# Altium footprint library SG_PCB_AltSobor_work.PcbLib: 52 footprints (part 2 of 4)
Each footprint in its own frame and in the unit in brackets; x right, y up, seen from the top. Pads: shape width x height; smd on the part's side, far side on the other; paste and mask are expansions set on the pad; w line width, h text height; cw(c..) or ccw(c..) is an arc to the next point about the centre after c.
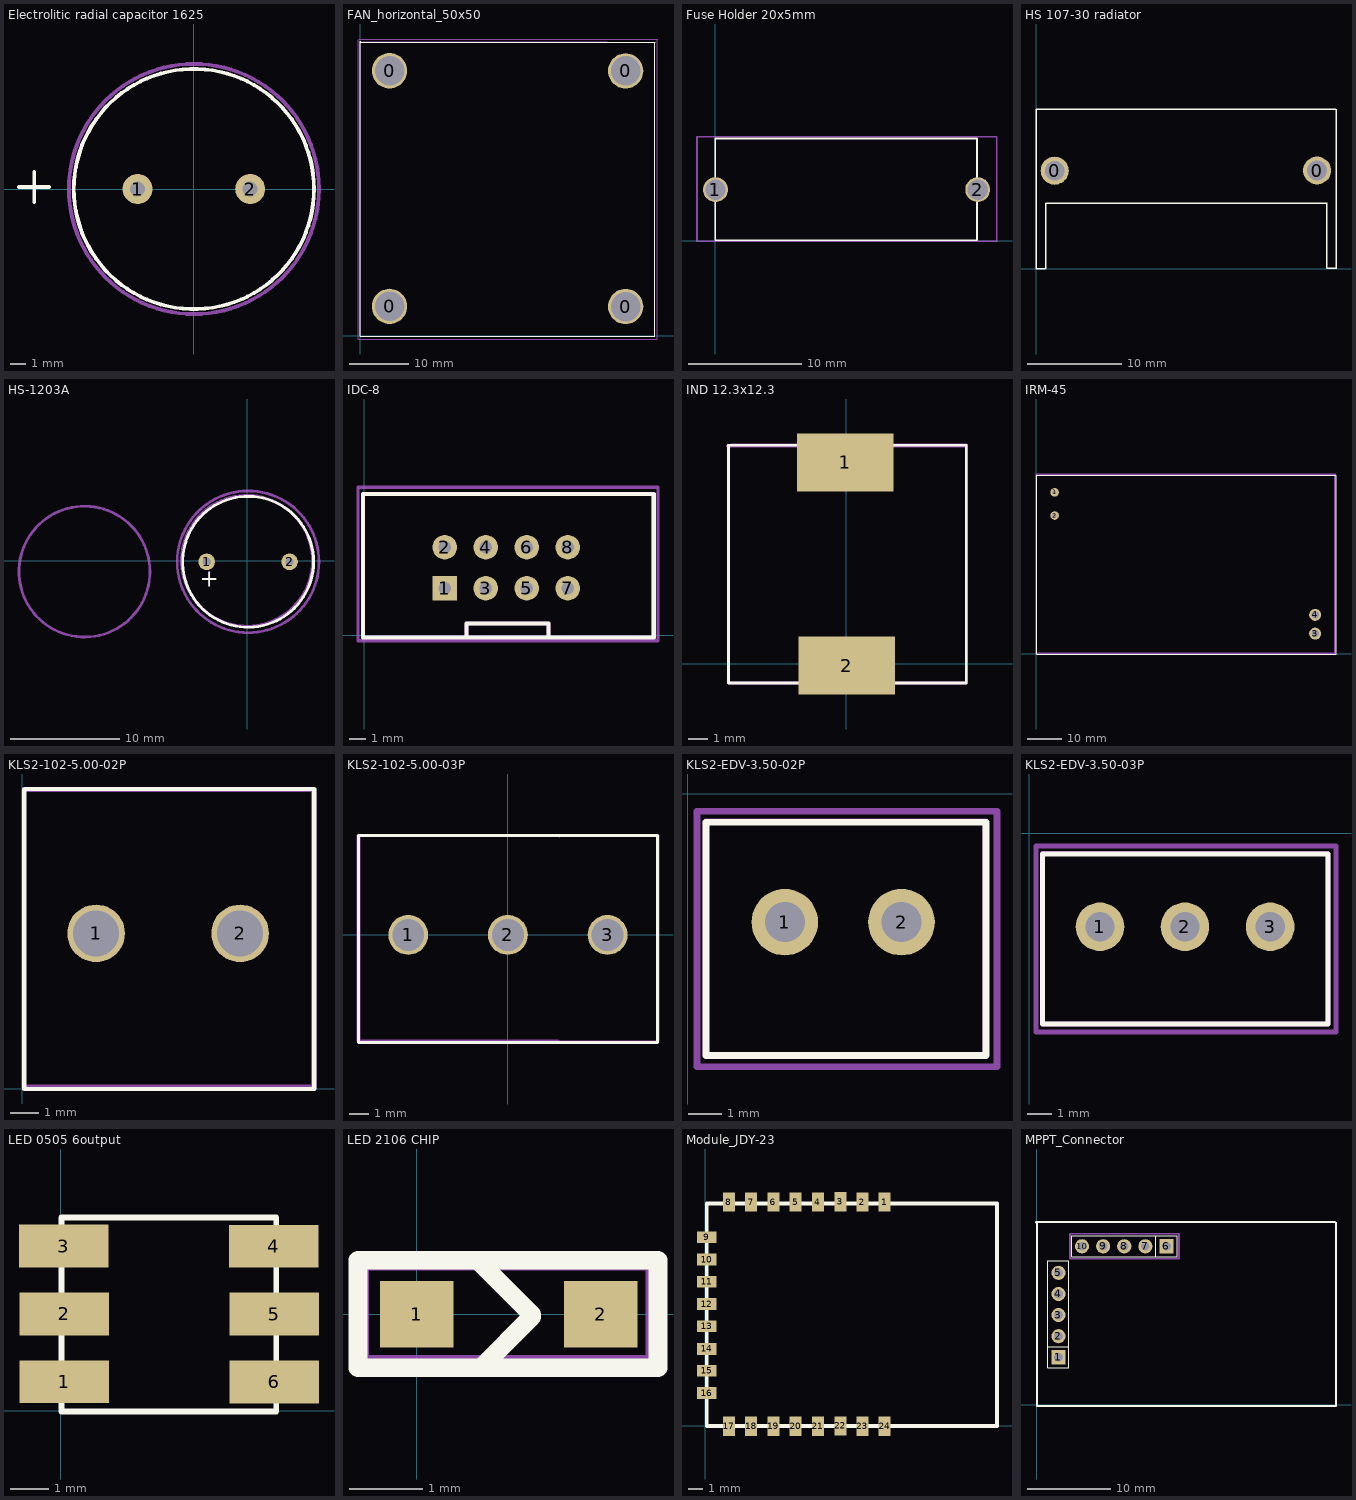
[diagram p1: the footprints below, top view; thin cyan lines are the x and y axes]

## Electrolitic radial capacitor 1625 [mm]
pads (2):
  round 2 hole 1: 1(-3.75,0) 2(3.75,0)
Top Overlay:
  circle w0.254: c0,0 r8
  lines w0.254: -11.65,0.125 -9.65,0.125 ; -10.64,-0.86 -10.64,1.14
Top Courtyard:
  circle w0.254: c0,0 r8.33

## FAN_horizontal_50x50 [mm]
pads (4):
  round 6 hole 5: 0(5,5.02) 0(5,45.015) 0(45.07,4.99) 0(45.07,44.985)
Top Overlay:
  lines w0.15: 0,-0.01 49.99,-0.01 49.99,49.75 50.105,49.865 0.115,49.865 0,49.98 0,-0.01
Bottom Assembly:
  lines w0.15: -0.315,-0.515 50.37,-0.515 50.445,-0.44 50.445,50.325 50.52,50.4 -0.165,50.4 -0.315,50.25 -0.315,-0.515
Top Courtyard:
  lines w0.15: -0.055,49.925 41.83,49.925 41.89,49.865 49.99,49.865 49.99,-0.01 0,-0.01 0,49.87 -0.055,49.925
3D body "FAN 50x50x15mm.step": height 15, standoff 0, extent 0,0.005 50,50.005

## Fuse Holder 20x5mm [mm]
pads (2):
  round 2.2 hole 1.8: 1(0,4.5) 2(23.175,4.5)
Top Overlay:
  lines w0.15: -0.015,0.03 -0.015,9.025 23.12,9.025 23.12,0.03 -0.015,0.03
Top Courtyard:
  lines w0.15: -1.63,9.18 24.855,9.18 24.855,-0.04 24.88,-0.065 -1.63,-0.065 -1.63,9.18 ; -1.63,9.18 -1.63,9.18
3D body "User Library-Fuse_Holder.STEP": height 12.44, standoff -6.4, extent 0.015,0.01 23.175,9.01

## HS 107-30 radiator [mm]
pads (2):
  round 3 hole 2.1: 0(1.995,10.46) 0(29.99,10.48)
Top Overlay:
  lines w0.15: 1,0 0,0 0,17 32,17 ; 1.015,0.015 1.015,6.995 30.99,6.995 ; 31.01,7.015 31.01,0.035 31.99,0.035 ; 32.01,0.015 32.01,17.015

## HS-1203A [mil]
pads (2):
  round 60 hole 30: 1(-145.67,-3.94) 2(153.54,-3.94)
Top Overlay:
  circle w10: c3.94,-3.94 r236.22
  text "+" at -171.1,-94.49 h60
Top Assembly:
  circle w10: c-586.61,-39.37 r236.22
  circle w10: c0,0 r236.22
Top Courtyard:
  circle w10: c3.94,-3.94 r255.91
3D body "Buzzer_HS-1203A_7,6mm.SLDPRT": height 377.95, standoff -216.54, extent -232.28,-240.15 240.16,232.29

## IDC-8 [mil]
pads (8):
  rect 60x60 hole 30: 1(196.65,115.35)
  round 60 hole 30: 2(196.65,215.35) 3(296.65,115.35) 4(296.65,215.35) 5(396.65,115.35) 6(396.65,215.35) 7(496.65,115.35) 8(496.65,215.35)
Top Overlay:
  lines w10: 249.8,-1.1 249.8,28.9 449.8,28.9 449.8,-1.1 ; -3.35,-4.65 706.3,-4.65 706.3,345.35 -3.35,345.35 -3.35,-4.65
Top Assembly:
  lines w10: 249.8,-1.1 249.8,28.9 449.8,28.9 449.8,-1.1 ; -3.35,-4.65 705.32,-4.65 705.32,345.35 -3.35,345.35 -3.35,-4.65
Top Courtyard:
  lines w7.87: -15.16,-12.6 -15.16,361.42 716.73,361.42 716.73,-12.6 -15.16,-12.6
3D body "User Library-DS1013-8S (IDC-8MS CONNFLY).STEP": height 354.33, standoff -141.73, extent -14.37,-4.72 692.72,345.67

## IND 12.3x12.3 [mm]
pads (2):
  rect 5x3 smd: 1(-0.045,10.405) 2(0.03,-0.11)
Top Overlay:
  lines w0.15: -6.095,-1.01 -6.095,11.29 6.205,11.29 6.205,-1.01 -6.095,-1.01
Top Courtyard:
  lines w0.15: -6.095,-0.9 -6.095,11.14 -5.925,11.31 6.23,11.31 6.23,-0.955 6.17,-1.015 -5.98,-1.015 -6.095,-0.9
Bottom Courtyard:
  lines w0.15: -6.15,11.255 -6.095,11.2 -6.095,-1.015 6.23,-1.015 6.23,11.255 -6.15,11.255

## IRM-45 [mm]
pads (4):
  round 2.5 hole 1.1: 1(5.31,47.03) 2(5.31,40.275)
  round 3.5 hole 2.1: 3(81.31,5.825) 4(81.31,11.305)
Top Overlay:
  lines w0.15: 0.095,-0.215 87.34,-0.215 87.39,-0.265 87.39,52.005 87.365,52.03 0.095,52.03 0.095,-0.215
Top Assembly:
  lines w0.15: -0.11,-0.01 -0.11,52.235 87.16,52.235 87.185,52.21 87.185,-0.06 87.135,-0.01 -0.11,-0.01
Bottom Assembly:
  lines w0.15: 0.05,0.28 0.05,52.525 87.32,52.525 87.345,52.5 87.345,0.23 87.295,0.28 0.05,0.28
Top Courtyard:
  lines w0.15: 0.01,49.94 0.01,0.065 ; 0.01,0.065 0.01,52.045 87.01,52.045 87.01,0.17 87.01,0.065 0.01,0.065
3D body "User Library-IRM-45.STEP": height 29.6, standoff -3.5, extent 0.005,0.125 87.005,52.125

## KLS2-102-5.00-02P [mm]
pads (2):
  round 2 hole 1.6: 1(2.57,5.395) 2(7.57,5.395)
Top Overlay:
  lines w0.15: 0.07,10.392 0.07,-0.01 10.085,-0.01 10.11,0.015 ; 0.1,10.38 0.125,10.405 10.14,10.405 10.14,0.002
Top Courtyard:
  lines w0.15: 0.05,0.075 10.095,0.075 10.15,0.02 10.15,10.365 10.125,10.39 0.075,10.39 0.05,10.365 ; 0.05,0.075 0.05,10.365 ; 0.05,0.075 0.05,10.365
Bottom Courtyard:
  lines w0.15: 0.05,0.065 0.05,10.335 0.09,10.375 10.095,10.375 10.11,10.36 10.11,0.02 0.095,0.02 0.05,0.065
3D body "User Library-KLS2-102-5_00.STEP": height 10.4, standoff -4.5, extent 4.875,-0.015 10.125,10.385
3D body "User Library-KLS2-102-5_00.STEP": height 10.4, standoff -4.5, extent 0.135,-0.02 5.385,10.38

## KLS2-102-5.00-03P [mm]
pads (3):
  round 2 hole 1.6: 1(-5,0) 2(0,0) 3(5,0)
Top Overlay:
  lines w0.15: -7.5,4.997 -7.5,-5.405 7.5,-5.405 ; -7.47,4.985 7.51,4.985 7.51,-5.375
Top Courtyard:
  lines w0.15: -7.52,4.97 -7.52,-5.32 ; 2.555,4.995 2.58,4.97 ; 2.58,-5.375 2.525,-5.32 -7.52,-5.32 ; 7.505,4.995 -7.52,4.995 -7.52,-5.32 ; 7.53,-5.38 7.53,4.965
Bottom Courtyard:
  lines w0.15: 7.51,-5.375 7.51,4.99 ; 7.52,4.98 -7.48,4.98 -7.48,-5.37 -7.475,-5.375 7.525,-5.375
3D body "User Library-KLS2-102-5_00.STEP": height 10.4, standoff -4.5, extent -7.435,-5.415 -2.185,4.985
3D body "User Library-KLS2-102-5_00.STEP": height 10.4, standoff -4.5, extent 2.27,-5.405 7.52,4.995
3D body "User Library-KLS2-102-5_00.STEP": height 10.4, standoff -4.5, extent -2.695,-5.41 2.555,4.99

## KLS2-EDV-3.50-02P [mm]
pads (2):
  round 2 hole 1.2: 1(2.915,-3.845) 2(6.415,-3.845)
Top Overlay:
  lines w0.2: 0.551,-7.845 8.951,-7.845 8.951,-0.851 0.551,-0.851 0.551,-7.845
Top Assembly:
  lines w0.2: 0.544,-7.845 0.544,-0.835 8.943,-0.835 8.943,-7.845 0.544,-7.845
Top Courtyard:
  lines w0.2: 0.28,-8.18 0.28,-0.52 9.28,-0.52 9.28,-8.18 0.28,-8.18
3D body: height 9.2, standoff 0, extent 0.56,-7.83 8.935,-0.865

## KLS2-EDV-3.50-03P [mm]
pads (3):
  round 2 hole 1.2: 1(2.915,-3.845) 2(6.415,-3.845) 3(9.925,-3.845)
Top Overlay:
  lines w0.2: 0.551,-7.845 0.551,-0.851 12.305,-0.851 12.305,-7.845 0.551,-7.845
Top Assembly:
  lines w0.2: 0.544,-7.845 12.31,-7.845 12.31,-0.835 0.544,-0.835 0.544,-7.845
Top Courtyard:
  lines w0.2: 0.28,-8.18 12.635,-8.18 12.635,-0.52 0.28,-0.52 0.28,-8.18
3D body: height 9.2, standoff 0, extent 0.56,-7.83 12.3,-0.9

## LED 0505 6output [mm]
pads (6):
  rect 2.3x1.1 smd: 1(0.08,0.745) 2(0.08,2.49) 3(0.07,4.235) 4(5.48,4.23) 5(5.49,2.485) 6(5.49,0.74)
Top Overlay:
  lines w0.15: 0.015,-0.025 5.27,-0.025 5.54,-0.025 5.54,4.975 0.285,4.975 0.015,4.975 0.015,-0.025
3D body: height 0.25, standoff 0, extent -0.035,0.08 5.485,4.97

## LED 2106 CHIP [mm]
pads (2):
  rect 1x0.9 smd: 1(0,0) 2(2.5,0)
Top Overlay:
  lines w0.254: 0.843,0.717 1.565,-0.005 1.565,-0.035 0.883,-0.718 ; -0.8,-0.73 -0.8,0.735 3.28,0.735 3.28,-0.73 -0.8,-0.73
Top Courtyard:
  lines w0.254: -0.785,0.72 3.24,0.72 3.24,-0.655 3.265,-0.68 -0.775,-0.68 -0.775,0.71

## Module_JDY-23 [mm]
pads (24):
  rect 0.8x1.3 smd: 1(12.084,15.086) 2(10.584,15.086) 3(9.104,15.1) 4(7.584,15.086) 5(6.084,15.086) 6(4.584,15.086) 7(3.084,15.086) 8(1.584,15.086) 17(1.584,-0.014) 18(3.084,-0.014) 19(4.584,-0.014) 20(6.084,-0.014) 21(7.584,-0.014) 22(9.104,0) 23(10.584,-0.014) 24(12.084,-0.014)
  rect 1.3x0.8 smd: 9(0.086,12.716) 10(0.086,11.216) 11(0.086,9.716) 12(0.086,8.216) 13(0.086,6.716) 14(0.1,5.196) 15(0.086,3.716) 16(0.086,2.216)
Top Overlay:
  lines w0.254: 0.1,14.94 0.1,0 ; 0.1,0 19.658,0 19.658,14.986 0.1,14.986 0.1,0
3D body "JDY-08.stp": height 2.08, standoff 0, extent 0,-0.106 19.888,14.906

## MPPT_Connector [mm]
pads (10):
  rect 1.7x1.7 hole 1.05 mask+0.05: 1(2.6,5.74) 6(15.6,19.1)
  round 1.7 hole 1.05 mask+0.05: 2(2.6,8.28) 3(2.6,10.82) 4(2.6,13.36) 5(2.6,15.9) 7(13.06,19.1) 8(10.52,19.1) 9(7.98,19.1) 10(5.44,19.1)
Top Overlay:
  lines w0.15: 1.33,7.01 3.87,7.01 ; 14.33,17.83 14.33,20.37 ; 1.33,4.47 3.87,4.47 3.87,17.34 1.33,17.34 1.33,4.47 ; 4.2,17.83 16.87,17.83 16.87,20.37 4.2,20.37 4.2,17.83
  lines w0.254: -0.1,22 35.9,22 36,21.9 36,-0.1 0,-0.1 0,21.9 -0.1,22
Top Courtyard:
  lines w0.2: 4,17.6 17.1,17.6 17.1,20.6 4,20.6 4,17.6
3D body "PLS1.stp": height 8.54, standoff -3, extent 9.25,17.83 11.79,20.37
3D body "PLS1.stp": height 8.54, standoff -3, extent 6.71,17.83 9.25,20.37
3D body "PLS1.stp": height 8.54, standoff -3, extent 4.17,17.83 6.71,20.37
3D body "PLS1.stp": height 8.54, standoff -3, extent 14.23,17.86 16.77,20.4
3D body "PLS1.stp": height 8.54, standoff -3, extent 11.79,17.83 14.33,20.37
3D body "PLS1.stp": height 8.54, standoff -3, extent 1.33,14.63 3.87,17.17
3D body "PLS1.stp": height 8.54, standoff -3, extent 1.33,12.09 3.87,14.63
3D body "PLS1.stp": height 8.54, standoff -3, extent 1.33,9.55 3.87,12.09
3D body "PLS1.stp": height 8.54, standoff -3, extent 1.33,7.01 3.87,9.55
3D body "PLS1.stp": height 8.54, standoff -3, extent 1.33,4.51 3.87,7.05